# EAGLE library part MICROSD_SD_MODE (library old-4ms-main-parts)
MOLEX 104031 microSD MOLEX - 49225-0821 - CONNECTEUR MICRO SD PUSH/PUSH REV Fabricant: MOLEX Code commande Farnell: 1366700 <http://fr.farnell.com/molex/49225-0821/connecteur-micro-sd-push-push-rev/dp/1366700?Ntt=1366700> Référence fabricant: 49225-0821
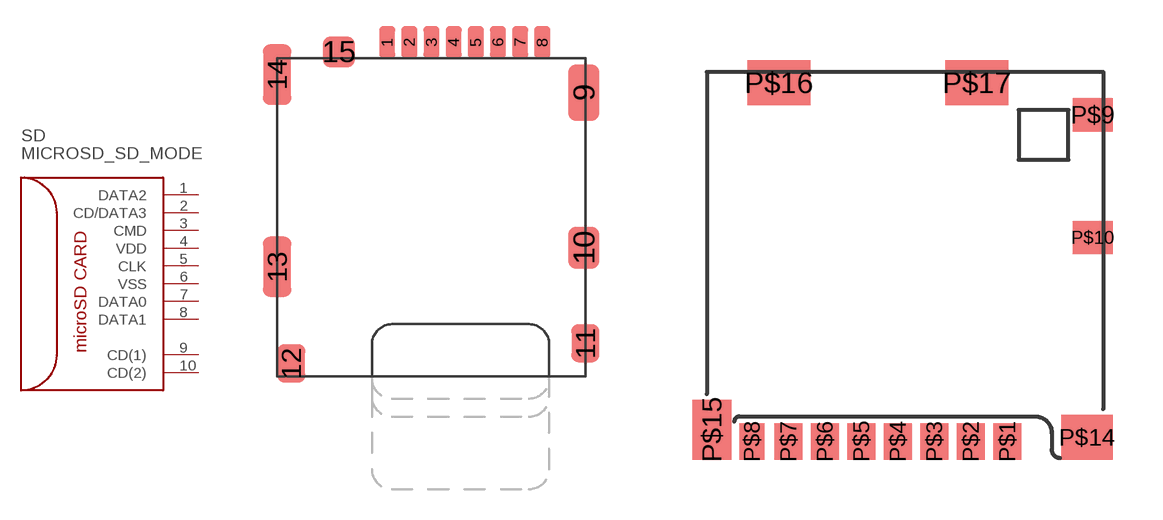
[diagram p17: symbol with the pads of MICRO_SD_CONNECTOR; footprints MICRO_SD_CONNECTOR, MICROSD-MOLEX-104031]

Designator prefix SD

## MICROSD_SD_MODEA  [MICRO_SD_CONNECTOR]
1  DATA2
2  CD/DATA3
3  CMD
4  VDD
5  CLK
6  VSS
7  DATA0
8  DATA1
9  CD(1)
10  CD(2)

## MICROSD_SD_MODE  [MICROSD-MOLEX-104031]
P$1  DATA2
P$2  CD/DATA3
P$3  CMD
P$4  VDD
P$5  CLK
P$6  VSS
P$7  DATA0
P$8  DATA1
P$9  CD(1)
P$10  CD(2)
P$15  VSS

## Footprint MICRO_SD_CONNECTOR (pad centres in mm)
smd 0.8 x 1.6: 1 -2.03,8.2; 2 -0.93,8.2; 3 0.17,8.2; 4 1.27,8.2; 5 2.37,8.2; 6 3.47,8.2; 7 4.57,8.2; 8 5.67,8.2
smd 1.55 x 2.8: 9 7.735,5.7
smd 1.55 x 2.1: 10 7.735,-2
smd 1.4 x 1.9: 11 7.81,-6.75; 12 -6.79,-7.75
smd 1.4 x 3: 13 -7.49,-2.95; 14 -7.49,6.6
smd 1.6 x 1.55: 15 -4.43,7.725

## Footprint MICROSD-MOLEX-104031 (pad centres in mm)
smd 0.85 x 1.1: P$1 3.16,0.25; P$2 2.06,0.25; P$3 0.96,0.25; P$4 -0.14,0.25; P$5 -1.24,0.25; P$6 -2.34,0.25; P$7 -3.44,0.25
smd 0.75 x 1.1: P$8 -4.54,0.25
smd 1.2 x 1: P$9 5.74,10.1; P$10 5.74,6.4
smd 1.55 x 1.35: P$14 5.565,0.375
smd 1.17 x 1.8: P$15 -5.75,0.6
smd 1.9 x 1.35: P$16 -3.73,11.075; P$17 2.24,11.075